# EAGLE library part TC5050RGB_LED (library myLib)
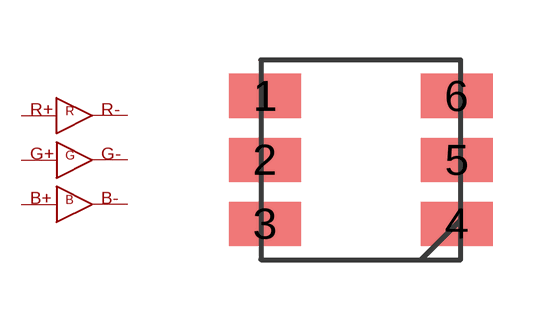
[diagram p4: symbol with the pads of BIG_SMD_LED; footprint BIG_SMD_LED]

Designator prefix -

## TC5050RGB_LED  [BIG_SMD_LED]
1  GPLUS
2  RPLUS
3  BPLUS
4  BMINUS
5  RMINUS
6  GMINUS

## Footprint BIG_SMD_LED (pad centres in mm)
smd 1.8 x 1.1: 1 -2.4,1.6; 2 -2.4,0; 3 -2.4,-1.6; 4 2.4,-1.6; 5 2.4,0; 6 2.4,1.6